# Altium footprint library VBlib_Diodes.PcbLib: 30 footprints (part 1 of 2)
Each footprint in its own frame and in the unit in brackets; x right, y up, seen from the top. Pads: shape width x height; smd on the part's side, far side on the other; paste and mask are expansions set on the pad; w line width, h text height; cw(c..) or ccw(c..) is an arc to the next point about the centre after c.
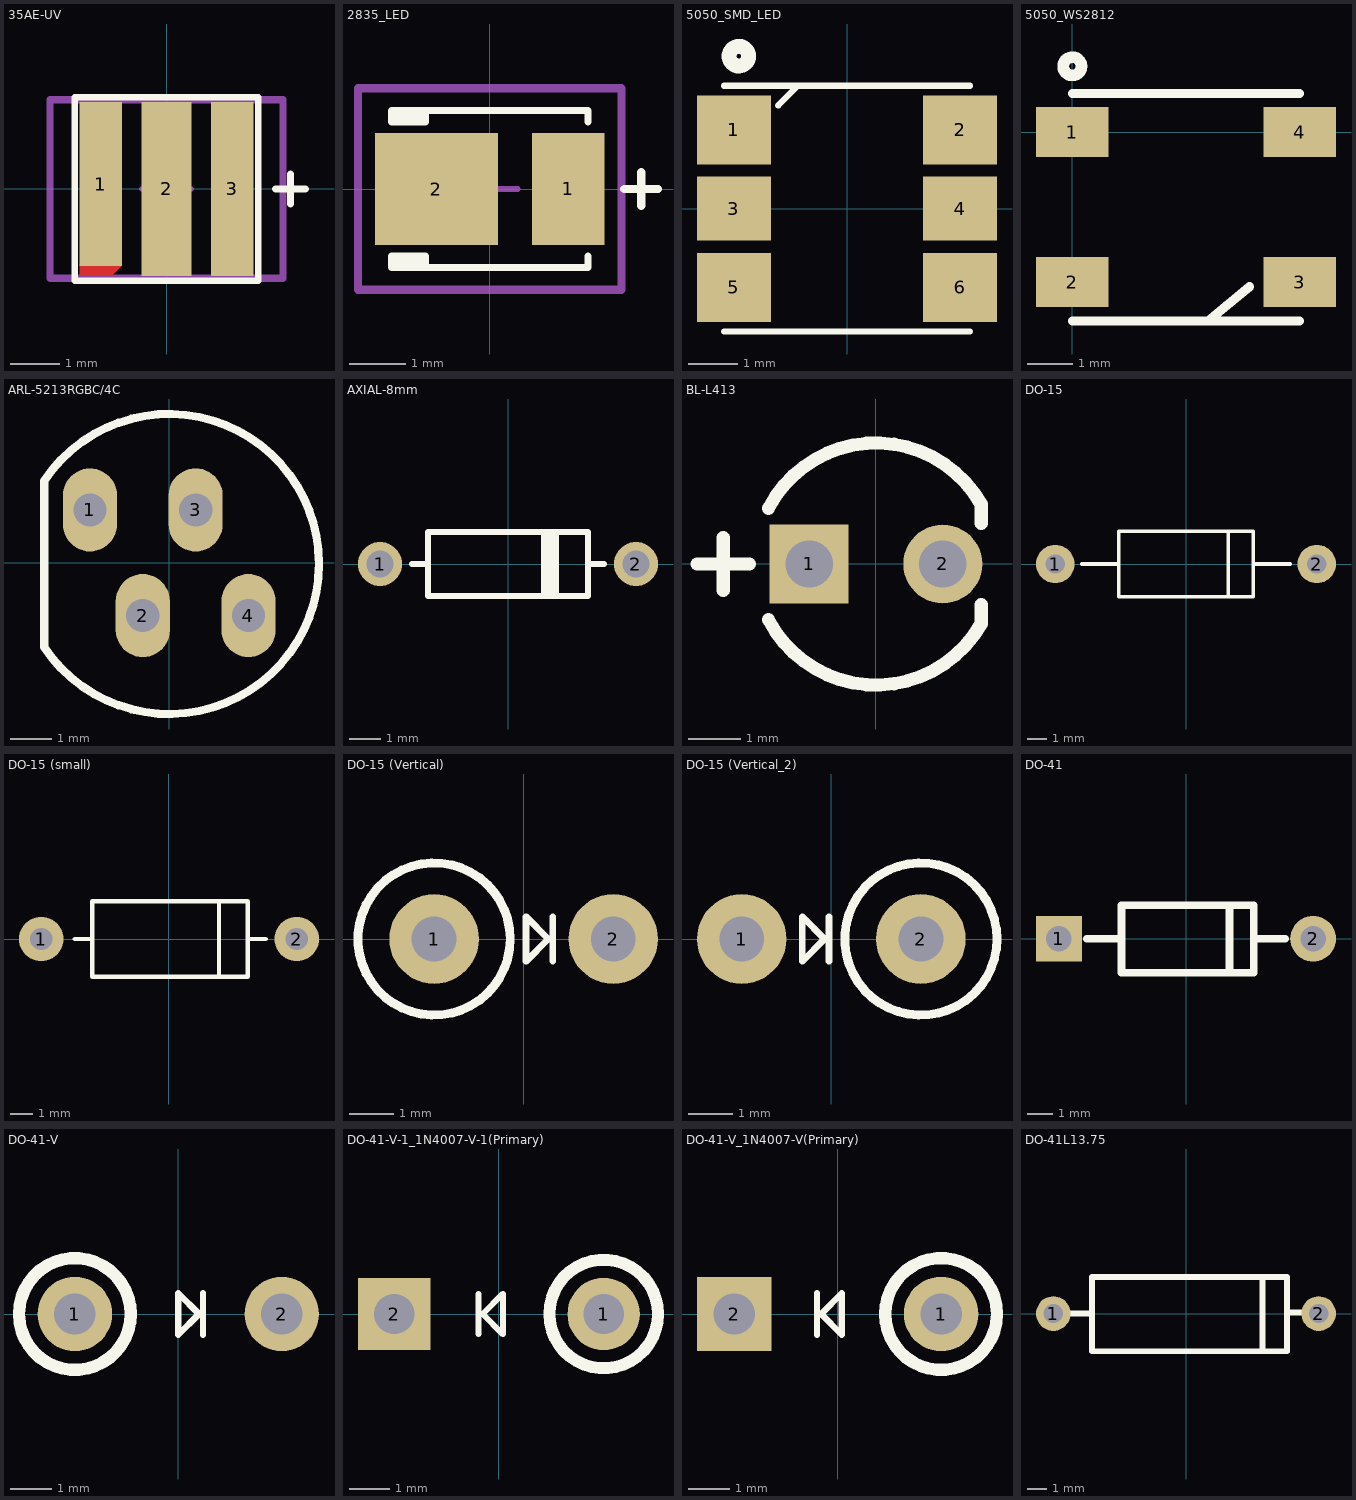
[diagram p0: the footprints below, top view; thin cyan lines are the x and y axes]

## 35AE-UV [mm]
pads (3):
  rect 0.85x3.3 smd: 1(-1.325,0.1)
  rect 1x3.5 smd: 2(0,0)
  rect 0.85x3.5 smd: 3(1.325,0)
Top Layer:
  region: -1.75,-1.525 -1.75,-1.75 -1.1,-1.75 -0.9,-1.55 -0.9,-1.525
Top Overlay:
  lines w0.127: -1.85,1.85 -1.85,-1.85 1.85,-1.85 1.85,1.85 -1.85,1.85
  lines w0.15: 2.2,0 2.8,0 ; 2.5,-0.3 2.5,0.3
Top Solder:
  region: -1.85,-1.525 -1.85,-1.85 -1,-1.85 -0.8,-1.65 -0.8,-1.525
Mechanical 15:
  lines w0.1: -0.5,0 0.5,0 ; 0,-0.5 0,0.5
Mechanical 16:
  lines w0.15: -2.349,-1.8 -2.349,1.8 2.349,1.8 2.349,-1.8 -2.349,-1.8
3D body: height 1.5, standoff 0, extent -1.85,-1.85 1.85,1.85

## 2835_LED [mm]
pads (2):
  rect 1.3x2 smd: 1(1.4,0)
  rect 2.2x2 smd: 2(-0.95,0)
Top Overlay:
  rectangle: -1.75,-1.4 -1.15,-1.225
  rectangle: -1.75,1.225 -1.15,1.4
  lines w0.127: -1.15,-1.4 -1.15,-1.2 -1.75,-1.2 -1.75,-1.4 1.75,-1.4 1.75,-1.2 ; -1.15,1.4 -1.15,1.2 -1.75,1.2 -1.75,1.4 1.75,1.4 1.75,1.2
  lines w0.15: 2.4,0 3,0 ; 2.7,-0.3 2.7,0.3
Mechanical 15:
  lines w0.1: -0.5,0 0.5,0 ; 0,-0.5 0,0.5
Mechanical 16:
  lines w0.15: -2.349,-1.8 -2.349,1.8 2.349,1.8 2.349,-1.8 -2.349,-1.8
3D body: height 0.8, standoff 0, extent -1.75,-1.4 1.75,1.4

## 5050_SMD_LED [mm] "5050_LED"
height 1.6
pads (6):
  rect 1.5x1.4 smd: 1(-2.3,1.6) 2(2.3,1.6) 5(-2.3,-1.6) 6(2.3,-1.6)
  rect 1.5x1.3 smd: 3(-2.3,0) 4(2.3,0)
Top Overlay:
  circle w0.3: c-2.2,3.1 r0.2
  lines w0.127: -2.5,-2.5 2.5,-2.5 ; -2.5,2.5 2.5,2.5 ; -1.4,2.1 -1,2.5
3D body "LED SMD 5050 RGB.stp": height 1.62, standoff 0, extent -2.7,-2.5 2.7,2.5

## 5050_WS2812 [mm]
pads (4):
  rect 1.6x1.1 smd mask+0: 1(0,0) 2(0,-3.3) 3(5,-3.3) 4(5,0)
Top Overlay:
  circle w0.254: c0,1.45 r0.202
  lines w0.2: 0,-4.15 5,-4.15 ; 0,0.85 5,0.85 ; 2.987,-4.15 3.9,-3.4
3D body "User Library-ws2812B-1.step": height 1.6, standoff 0.03, extent -0.225,-4.15 5.175,0.85

## ARL-5213RGBC/4C [mm] "RGB светодиод c общим катодом (ф.Arlight)"
height 10
pads (4):
  oval 1.3x2 hole 0.8: 1(-1.905,1.27) 2(-0.635,-1.27) 3(0.635,1.27) 4(1.905,-1.27)
Top Overlay:
  lines w0.2: -3.005,-2.03 ccw(c-0.005,-0.03) -3.005,1.97 -3.005,-2.03

## AXIAL-8mm [mm] "Axial Device, Thru-Hole; 2 Leads; 8mm Pin Spacing"
height 2.3
pads (2):
  round 1.4 hole 0.85: 1(-4.064,0) 2(4.064,0)
Top Overlay:
  lines w0.2: -3.048,0 -2.54,0 ; 1.143,-1.016 1.143,1.016 ; 1.27,1.016 1.27,-1.016 1.397,-1.016 1.397,1.016 ; 1.524,-1.016 1.524,1.016 ; 2.54,0 3.048,0 ; -2.54,-1.016 -2.54,1.016 2.54,1.016 2.54,-1.016 -2.54,-1.016

## BL-L413 [mm] "LED, d=4mm"
height 6
pads (2):
  rect 1.5x1.5 hole 0.9: 1(-1.27,0)
  round 1.5 hole 0.9: 2(1.27,0)
Top Overlay:
  lines w0.25: -3.4,0 -2.4,0 ; -2.9,-0.5 -2.9,0.5 ; -2.042,-1.059 ccw(c0,0) 2,-1.136 ; -2.042,1.059 cw(c0,0) 2,1.136
  lines w0.254: 2,-1.136 2,-0.775 ; 2,0.775 2,1.136
3D body "BL-L413.STEP": height 6, standoff -3, extent -2.3,-2.298 2,2.298
3D body: height 0, standoff -2.5, extent 1.02,-0.25 1.52,0.25
3D body: height 0, standoff -2.5, extent -1.52,-0.25 -1.02,0.25

## DO-15 [mm]
pads (2):
  round 2 hole 1: 1(-6.8,0) 2(6.8,0)
Top Overlay:
  lines w0.2: -5.4,0 -3.5,0 ; 2.2,-1.7 2.2,1.7 ; 3.5,0 5.4,0 ; -3.5,-1.7 -3.5,1.7 3.5,1.7 3.5,-1.7 -3.5,-1.7
3D body "DO-15.STEP": height 3.78, standoff -2, extent -7.21,-1.782 7.25,1.783

## DO-15 (small) [mm]
pads (2):
  round 2 hole 1: 1(-5.75,0) 2(5.75,0)
Top Overlay:
  lines w0.2: -4.25,0 -3.45,0 ; 2.25,-1.7 2.25,1.7 ; 3.55,0 4.35,0 ; -3.45,-1.7 3.55,-1.7 3.55,1.7 -3.45,1.7 -3.45,-1.7
3D body: height 3.8, standoff 0.2, extent 2,-1.8 2.5,1.8
3D body: height 1.8, standoff -2.5, extent -6.149,-0.43 -5.291,0.427
3D body: height 2.43, standoff 1.57, extent -5.6,-0.428 -3.8,0.428
3D body: height 3.8, standoff 0.2, extent -3.8,-1.798 3.8,1.798
3D body: height 1.8, standoff -2.5, extent 5.291,-0.427 6.149,0.43
3D body: height 2.43, standoff 1.57, extent 3.8,-0.426 5.6,0.43

## DO-15 (Vertical) [mm]
pads (2):
  round 2 hole 1: 1(-2,0) 2(2,0)
Top Overlay:
  circle w0.2: c-2,0 r1.7
  lines w0.15: 0.65,-0.5 0.65,0.5 ; 0.65,0 0.55,0 ; 0.55,0 0.05,0.5 0.05,-0.5 0.55,0

## DO-15 (Vertical_2) [mm]
pads (2):
  round 2 hole 1: 1(-2,0) 2(2,0)
Top Overlay:
  circle w0.2: c2,0 r1.7
  lines w0.15: -0.05,-0.5 -0.05,0.5 ; -0.05,0 -0.15,0 ; -0.15,0 -0.65,0.5 -0.65,-0.5 -0.15,0
3D body: height 7.6, standoff 0, extent 0.2,-1.8 3.8,1.8
3D body: height -0.5, standoff -2.5, extent 1.571,-0.43 2.429,0.427
3D body: height 9.6, standoff 7.6, extent 1.571,-0.43 2.429,0.427
3D body: height 10.03, standoff 9.17, extent -2,-0.428 2,0.428
3D body: height 9.6, standoff -2.5, extent -2.429,-0.43 -1.571,0.427

## DO-41 [mm]
pads (2):
  rect 1.8x1.8 hole 1: 1(-5,0)
  round 1.8 hole 1: 2(5,0)
Top Overlay:
  lines w0.3: -3.9,0 -2.6,0 ; 1.709,-1.346 1.709,1.321 ; 2.7,0 3.9,0 ; -2.536,-1.346 2.671,-1.346 2.671,1.321 -2.536,1.321 -2.536,-1.346

## DO-41-V [mm]
pads (2):
  round 1.8 hole 1: 1(-2.5,0) 2(2.5,0)
Top Overlay:
  circle w0.3: c-2.5,0 r1.35
  lines w0.15: 0.6,-0.5 0.6,0.5 ; 0.6,0 0.5,0 ; 0.5,0 0,-0.5 0,0.5 0.5,0
3D body "User Library-DO-41 Vert 5_08mm.step": height 9.43, standoff -2.2, extent -3.855,-1.4 3.005,1.3

## DO-41-V-1_1N4007-V-1(Primary) [mm]
pads (2):
  round 1.8 hole 1: 1(2.603,0)
  rect 1.8x1.8 hole 1: 2(-2.603,0)
Top Overlay:
  circle w0.3: c2.603,0 r1.35
  lines w0.15: -0.504,-0.5 -0.503,0.5 ; -0.504,0 -0.403,0 ; -0.403,0 0.096,0.5 0.097,-0.5 -0.403,0
3D body "User Library-DO-41 Vert 5_08mm.step": height 9.43, standoff -2.2, extent -2.983,-1.35 3.877,1.35

## DO-41-V_1N4007-V(Primary) [mm]
pads (2):
  round 1.8 hole 1: 1(2.5,0)
  rect 1.8x1.8 hole 1: 2(-2.5,0)
Top Overlay:
  circle w0.3: c2.5,0 r1.35
  lines w0.15: -0.5,-0.5 -0.5,0.5 ; -0.5,0 -0.4,0 ; -0.4,0 0.1,-0.5 0.1,0.5 -0.4,0

## DO-41L13.75 [mm]
pads (2):
  round 1.8 hole 1: 1(-6.875,0) 2(6.875,0)
Top Overlay:
  lines w0.3: -7.035,0 -4.865,0 ; 3.96,-1.905 3.96,1.905 ; 5.235,0.05 6.935,0.05 ; -4.865,-1.95 -4.865,1.9 5.235,1.9 5.235,-1.95 -4.865,-1.95